# Altium footprint library lead-out.PcbLib: 5 footprints
Each footprint in its own frame and in the unit in brackets; x right, y up, seen from the top. Pads: shape width x height; smd on the part's side, far side on the other; paste and mask are expansions set on the pad; w line width, h text height; cw(c..) or ccw(c..) is an arc to the next point about the centre after c.
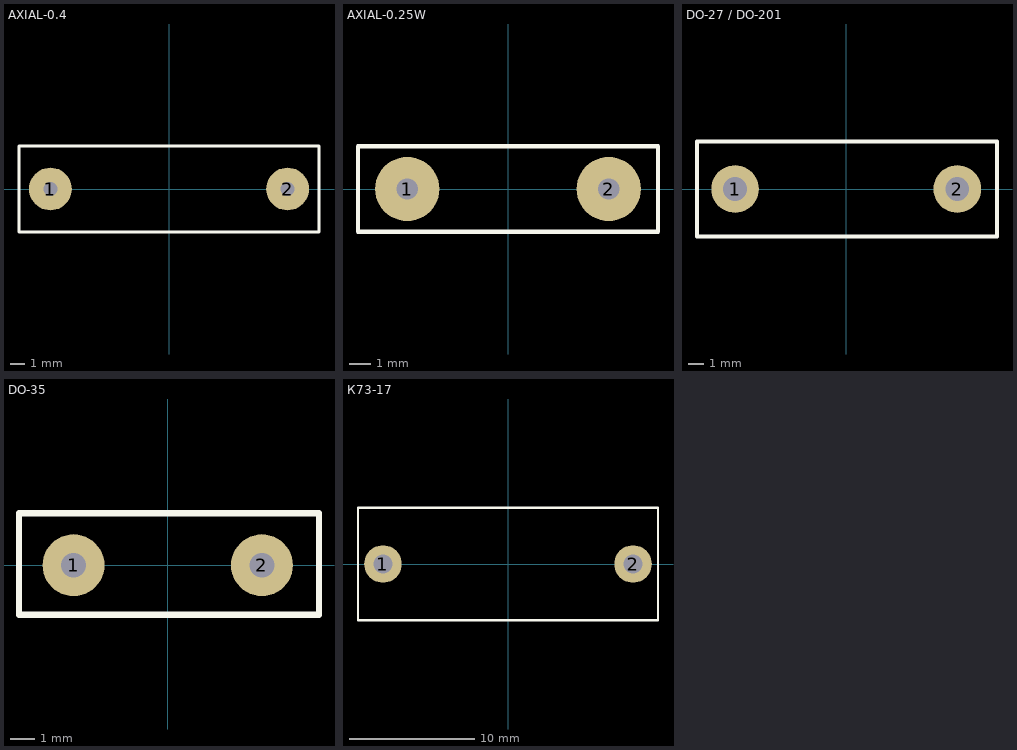
[diagram p0: the footprints below, top view; thin cyan lines are the x and y axes]

## AXIAL-0.4 [mm]
pads (2):
  round 3 hole 1: 1(-8.3,0) 2(8.3,0)
Top Overlay:
  lines w0.2: -10.5,-3 10.5,-3 10.5,3 -10.5,3 -10.5,-3
3D body "RES_AH_1W_650mil_0R_5%.STEP": height 5.28, standoff -4.2, extent -8.655,-2.277 8.655,2.277

## AXIAL-0.25W [mm]
pads (2):
  round 3 hole 1: 1(-4.7,0) 2(4.7,0)
Top Overlay:
  lines w0.2: -7,-2 -7,2 7,2 7,-2 -7,-2
3D body "82R-Resistor 0.25w Beige- Diameter 2- 9.5- 5%.stp": height 4.11, standoff -2.2, extent -5,-1.111 5,1.111

## DO-27 / DO-201 [mm]
pads (2):
  round 3 hole 1.5: 1(-7,0) 2(7,0)
Top Overlay:
  lines w0.254: -9.4,-3 9.5,-3 9.5,3 -9.4,3 -9.4,-0.4 -9.4,-3
3D body "DO-27_Normal_550mil_rev1.0.STEP": height 7.05, standoff -2.6, extent -7.62,-2.5 7.62,2.55

## DO-35 [mm]
pads (2):
  round 2.5 hole 1: 1(-3.8,0) 2(3.8,0)
Top Overlay:
  lines w0.254: -6,-2 -6,2.1 6.1,2.1 6.1,-2 -6,-2
3D body "DO-35.step": height 4, standoff -1, extent -4.058,-1.004 4.058,1.004

## К73-17 [mm]
pads (2):
  round 3 hole 1.5: 1(-10,0) 2(10,0)
Top Overlay:
  lines w0.2: -12,-4.5 12,-4.5 12,4.5 -12,4.5 -12,-4.5
3D body: height 18, standoff 0, extent -10.55,-4 10.55,4